# EAGLE library part CD (library untitled)
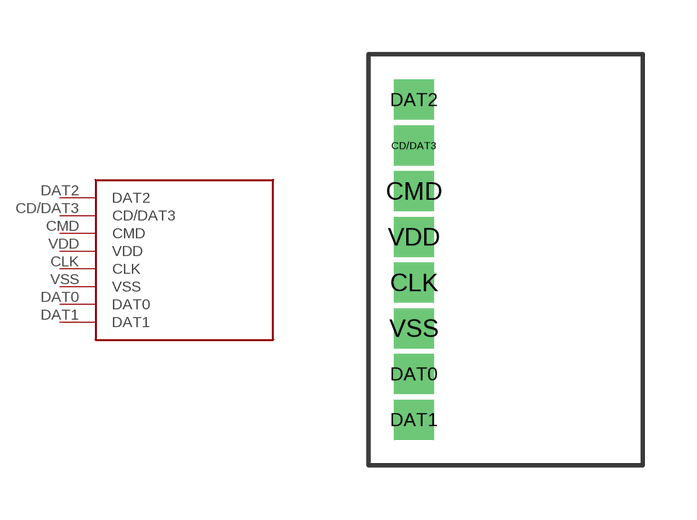
[diagram p0: symbol with the pads of CD; footprint CD]

Designator prefix -

## CD  [CD]
CD/DAT3  CD/DAT3
CLK  CLK
CMD  CMD
DAT0  DAT0
DAT1  DAT1
DAT2  DAT2
VDD  VDD
VSS  VSS

## Footprint CD (pad centres in mm)
drill 0.6 square: CD/DAT3 -2.54,3.81; CLK -2.54,0; CMD -2.54,2.54; DAT0 -2.54,-2.54; DAT1 -2.54,-3.81; DAT2 -2.54,5.08; VDD -2.54,1.27; VSS -2.54,-1.27